# Altium footprint library SOT-363.PcbLib: 1 footprints
Each footprint in its own frame and in the unit in brackets; x right, y up, seen from the top. Pads: shape width x height; smd on the part's side, far side on the other; paste and mask are expansions set on the pad; w line width, h text height; cw(c..) or ccw(c..) is an arc to the next point about the centre after c.
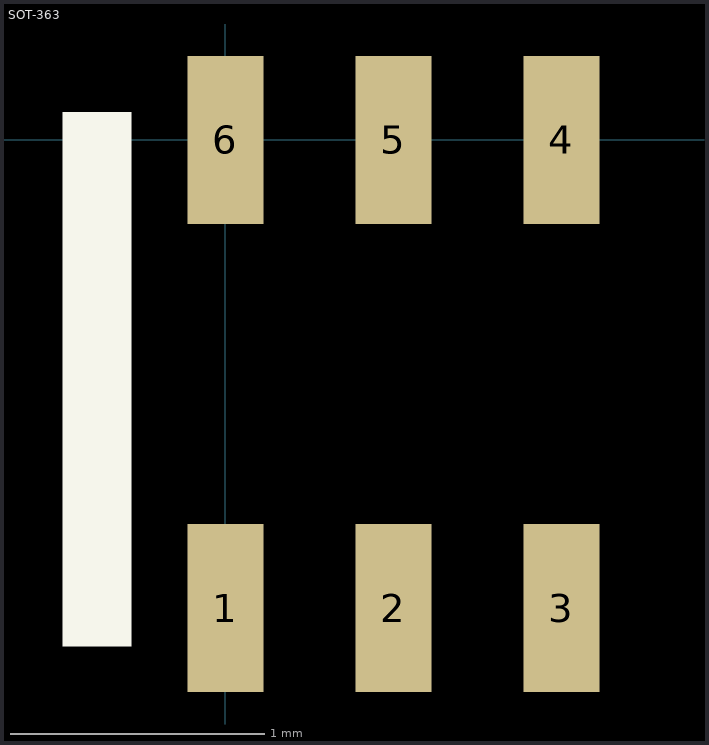
[diagram p0: the footprint, top view; thin cyan lines are the x and y axes]

## SOT-363 [mm]
pads (6):
  rect 0.3x0.66 smd: 1(0,-1.84) 2(0.66,-1.84) 3(1.32,-1.84) 4(1.32,0) 5(0.66,0) 6(0,0)
Top Overlay:
  rectangle: -0.64,-1.99 -0.37,0.11
3D body "User Library-SC70-6.step": height 0.93, standoff -0.02, extent -0.34,-1.99 1.66,0.11